# Altium footprint library PcbLib1.PcbLib: 1 footprints
Each footprint in its own frame and in the unit in brackets; x right, y up, seen from the top. Pads: shape width x height; smd on the part's side, far side on the other; paste and mask are expansions set on the pad; w line width, h text height; cw(c..) or ccw(c..) is an arc to the next point about the centre after c.
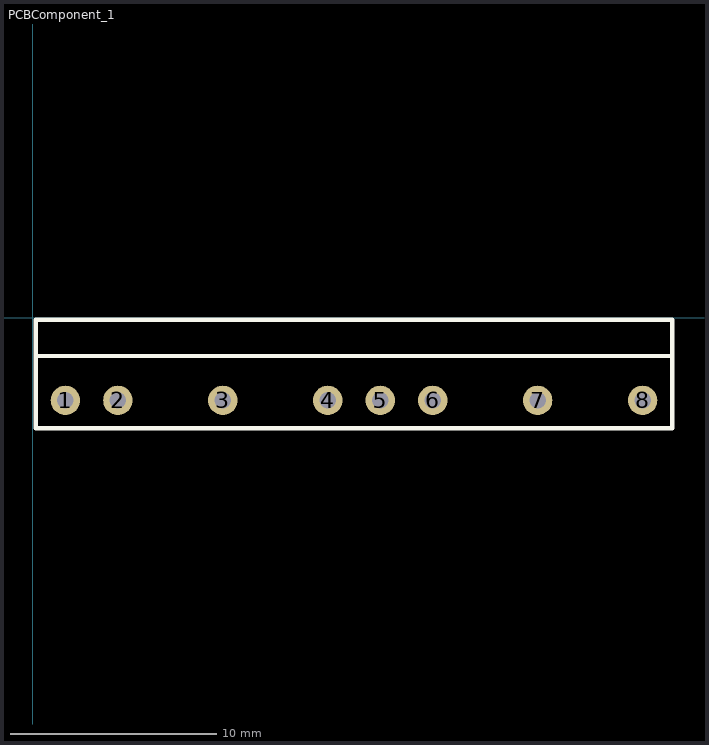
[diagram p0: the footprint, top view; thin cyan lines are the x and y axes]

## PCBComponent_1 [mil]
pads (8):
  round 56 hole 31.5: 1(62.44,-157.48) 2(162.44,-157.48) 3(362.44,-157.48) 4(562.44,-157.48) 5(662.44,-157.48) 6(762.44,-157.48) 7(962.44,-157.48) 8(1162.44,-157.48)
Top Overlay:
  lines w8: 1218.74,-72.83 6.14,-72.83 ; 6.14,-72.83 6.14,-3.94 1218.74,-3.94 1218.74,-210.63 6.14,-210.63 6.14,-72.83
3D body "User Library-apex-pa95_power op_e0495000.step": height 880.71, standoff -255.12, extent 2.21,-259.84 1222.68,-3.94